# EAGLE library part LP3982 (library bschulz)
LP3982* - Micropower, Ultra-Low-Dropout, Low-Noise, Linear Regulator Characteristics: Vin: 2.5V ~ 6V Vout: 1.8V, 2.5V, 3.3V, ADJ IQ: 90μA typ Dropout Voltage: 120mV @ 300mA Voltage Accuracy: 2% typ, 3.5% max Output Current: 300 mA Operating Temperature: -40°C to 85°C Features: Fault, Enable Digikey: LP3982IMM-ADJ/NOPB (Adjustable, VSSOP) <https://www.digikey.com/product-detail/en/texas-instruments/LP3982IMM-ADJ-NOPB/LP3982IMM-ADJ-NOPBCT-ND/570193>
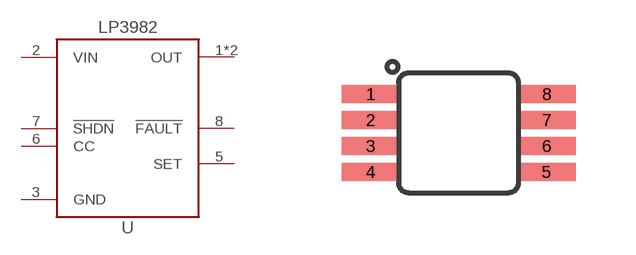
[diagram p120: symbol with the pads of DGK_S-PDSO-G8; footprint DGK_S-PDSO-G8]

Designator prefix U

## LP3982VSSOP (MF: TI), LP3982ADJVSSOP (DIGIKEY: LP3982IMM-ADJ/NOPBCT-ND; MF: TI; MPN: LP3982IMM-ADJ/NOPB)  [DGK_S-PDSO-G8]
1  OUT  pwr
2  VIN  pwr
3  GND  pwr
4  OUT  pwr
5  SET  in
6  CC  in
7  !SHDN  in
8  !FAULT  out

## Footprint DGK_S-PDSO-G8 (pad centres in mm)
smd 1.45 x 0.45: 1 -2.2,0.975; 2 -2.2,0.325; 3 -2.2,-0.325; 4 -2.2,-0.975; 5 2.2,-0.975; 6 2.2,-0.325; 7 2.2,0.325; 8 2.2,0.975